# EAGLE library part UJ31-CH-31-SMT-TR (library vibhud)
Conn USB 3.1 Type C RCP 24 POS 0.5mm Solder RA SMD 24 Terminal 1 Port T/R
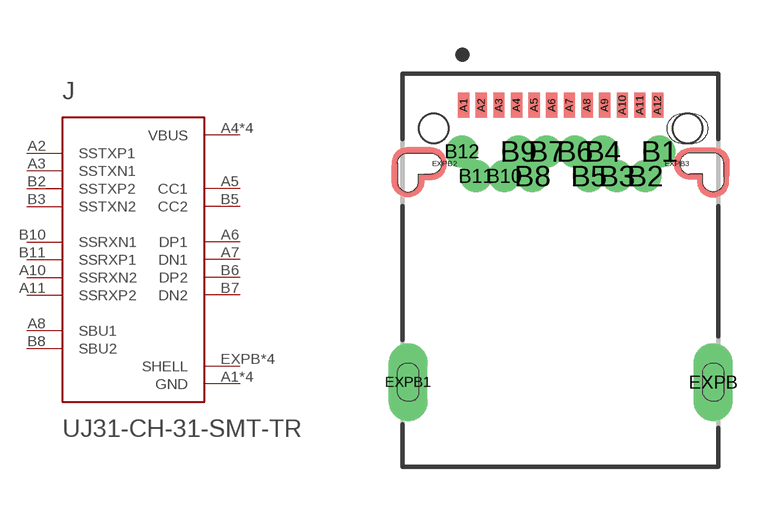
[diagram p9: symbol with the pads of CUI_UJ31-CH-31-SMT-TR; footprint CUI_UJ31-CH-31-SMT-TR]

Designator prefix J

## UJ31-CH-31-SMT-TR (MF: CUI inc.; MPN: UJ31-CH-31-SMT-TR; PARTREV: 1.02; STANDARD: Manufacturer recommendation)  [CUI_UJ31-CH-31-SMT-TR]
A1  GND  pwr
A2  SSTXP1
A3  SSTXN1
A4  VBUS  pwr
A5  CC1
A6  DP1
A7  DN1
A8  SBU1
A9  VBUS  pwr
A10  SSRXN2
A11  SSRXP2
A12  GND  pwr
B1  GND  pwr
B2  SSTXP2
B3  SSTXN2
B4  VBUS  pwr
B5  CC2
B6  DP2
B7  DN2
B8  SBU2
B9  VBUS  pwr
B10  SSRXN1
B11  SSRXP1
B12  GND  pwr
EXPB  SHELL  pwr
EXPB1  SHELL  pwr
EXPB2  SHELL  pwr
EXPB3  SHELL  pwr

## Footprint CUI_UJ31-CH-31-SMT-TR (pad centres in mm)
smd 0.32 x 0.7: A1 -2.75,0.66; A2 -2.25,0.66; A3 -1.75,0.66; A4 -1.25,0.66; A5 -0.75,0.66; A6 -0.25,0.66; A7 0.25,0.66; A8 0.75,0.66; A9 1.25,0.66; A10 1.75,0.66; A11 2.25,0.66; A12 2.75,0.66
drill 0.4 pad 0.6: B1 2.8,-0.65; B2 2.4,-1.35; B3 1.6,-1.35; B4 1.2,-0.65; B5 0.8,-1.35; B6 0.4,-0.65; B7 -0.4,-0.65; B8 -0.8,-1.35; B9 -1.2,-0.65; B10 -1.6,-1.35; B11 -2.4,-1.35; B12 -2.8,-0.65
drill 0.6 pad 0.9 long: EXPB 4.33,-7.2; EXPB1 -4.33,-7.2
smd 0.1 x 0.1: EXPB2 -3.3,-1; EXPB3 3.3,-1
hole 0.85 at -3.6,0
hole 0.85 at 3.6,0